# Altium schematic symbol library Molex_DT.SchLib: 2 symbols
Pins are listed as number, name and electrical type; pins without a type are passive.

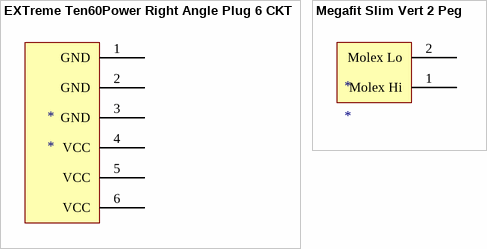
[diagram p0: symbols EXTreme Ten60Power Right Angle Plug 6 CKT to Megafit Slim Vert 2 Peg]

## EXTreme Ten60Power Right Angle Plug 6 CKT
designator *
footprint EXTreme Ten60Power Right Angle Plug 6 CKT
pins: 1 GND, 2 GND, 3 GND, 4 VCC, 5 VCC, 6 VCC

## Megafit Slim Vert 2 Peg
designator *
mfgr_part_num: 76829-0102
footprint 76829-0102 (molex 2 circuit connector megafit slim)
pins: 1 Molex Hi, 2 Molex Lo